# Altium schematic symbol library LT1129CS8-3.3#PBF.SchLib: 1 symbol
Pins are listed as number, name and electrical type; pins without a type are passive.

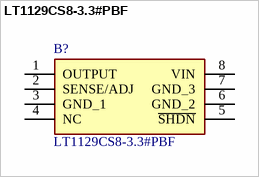
[diagram p0: symbol LT1129CS8-3.3#PBF]

## LT1129CS8-3.3#PBF
designator B?
Linear Technology LT1129CS8-3.3#PBF, LDO Voltage Regulator, 700mA, 3.3 V, -30  30 Vin, 8-Pin; Manufacturer_Name: Analog Devices; Geometry.Height: 1.752mm; Manufacturer_Part_Number: LT1129CS8-3.3#PBF; Mouser Part Number: 584-LT1129CS8-3.3PBF; Mouser Price/Stock: https://www.mouser.co.uk/ProductDetail/Analog-Devices/LT1129CS8-3.3PBF?qs=ytflclh7QUUPxIiRT3KdTw%3D%3D; Arrow Part Number: LT1129CS8-3.3#PBF; Arrow Price/Stock: https://www.arrow.com/en/products/lt1129cs8-3.3pbf/analog-devices?region=nac; Mouser Testing Part Number: *; Mouser Testing Price/Stock: *; Datasheet Link: http://cds.linear.com/docs/en/datasheet/112935ff.pdf
footprint SOIC127P599X175-8N
pins: 1 OUTPUT, 2 SENSE/ADJ, 3 GND_1, 4 NC, 5 ~{SHDN}, 6 GND_2, 7 GND_3, 8 VIN